# EAGLE library part XTR101U (library burr-brown)
4-20mA Current loop Transmitter
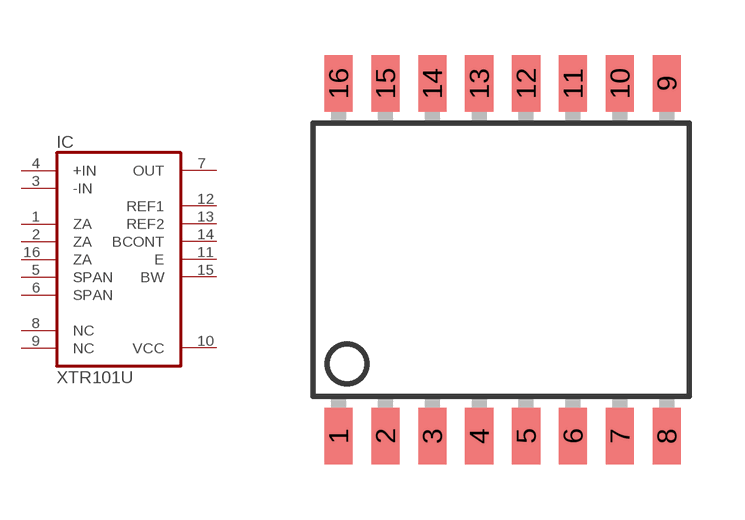
[diagram p21: symbol with the pads of SO16-1; footprint SO16-1]

Designator prefix IC

## XTR101U (MANUFACTURER: TEXAS INSTRUMENTS; MPN: XTR101AU)  [SO16-1]
1  ZA  pas
2  ZA  pas
3  -IN  in
4  +IN  in
5  SPAN  pwr
6  SPAN  pwr
7  OUT  out
8  NC  nc
9  NC  nc
10  VCC  pwr
11  E  pas
12  REF1  out
13  REF2  out
14  BCONT  out
15  BW  pas
16  ZA  pwr

## Footprint SO16-1 (pad centres in mm)
Small Outline Package
smd 0.762 x 1.524: 1 -4.445,-4.775; 2 -3.175,-4.775; 3 -1.905,-4.775; 4 -0.635,-4.775; 5 0.635,-4.775; 6 1.905,-4.775; 7 3.175,-4.775; 8 4.445,-4.775; 9 4.445,4.775; 10 3.175,4.775; 11 1.905,4.775; 12 0.635,4.775; 13 -0.635,4.775; 14 -1.905,4.775; 15 -3.175,4.775; 16 -4.445,4.775